# EAGLE library part IM26GR (library IM26GR)
Body Features: Product Weight .75 G | Insulation Special Features 2500V Initial Surge Withstand Voltage between Contacts & Coil | Product Weight .026 OZ | Contact Features: Contact Arrangement 2 Form C (2 CO) | Contact Number of Poles 2 | Contact Current Rating (Max) 2 AMP | Contact Special Features Bifurcated/Twin Contacts | Contact Plating Material Gold | Contact Base Material PdRu+Au | Contact Current Class 0 2 AMP | Dimensions: Product Length .393 INCH | Width Class (Mechanical) 0 6 MM | Product Source: Datasheet <https://www.te.com/commerce/DocumentDelivery/DDEController?Action=srchrtrv&DocNm=108-98001&DocType=Data Sheet&DocLang=English&PartCntxt=3-1462039-1&DocFormat=pdf>
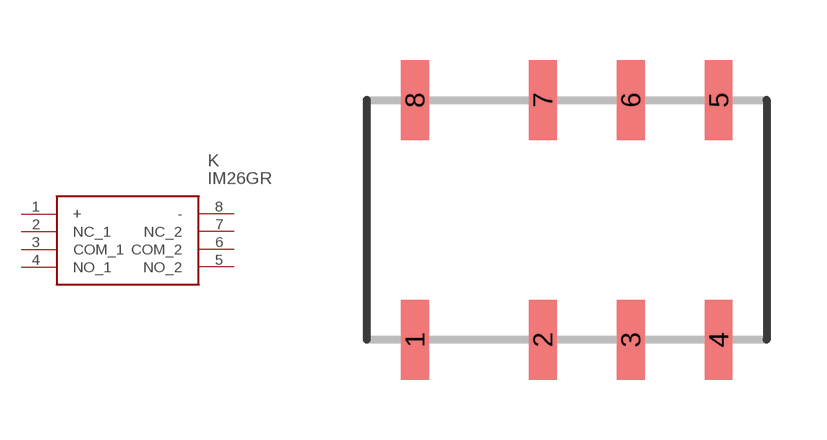
[diagram p0: symbol with the pads of IM07GR; footprint IM07GR]

Designator prefix K

## IM26GR (Description: Body Features: Product Weight .75 G | Insulation Special Features 2500V Initial Surge Withstand Voltage between Contacts & Coil | Product Weight .026 OZ | Contact Features: Contact Arrangement 2 Form C (2 CO) | Contact Number of Poles 2 | Contact Current Rating (Max) 2 AMP | Contact Special Features Bifurcated/Twin Contacts | Contact Plating Material Gold | Contact Base Material PdRu+Au | Contact Current Class 0 2 AMP | Dimensions: Product Length .393 INCH | Width Class (Mechanical) 0 6 MM | Product; Height: mm; Manufacturer_Name: TE Connectivity; Manufacturer_Part_Number: IM26GR; Mouser_Part_Number: 655-IM26GR; Mouser_Price-Stock: https://www.mouser.co.uk/ProductDetail/TE-Connectivity-Axicom/IM26GR?qs=g%252BEszo6zu8Mzp1wukcNrqQ%3D%3D)  [IM07GR]
1  +
2  NC_1
3  COM_1
4  NO_1
5  NO_2
6  COM_2
7  NC_2
8  -

## Footprint IM07GR (pad centres in mm)
IM07GR
smd 0.7 x 2: 1 -3.8,-3; 2 -0.6,-3; 3 1.6,-3; 4 3.8,-3; 5 3.8,3; 6 1.6,3; 7 -0.6,3; 8 -3.8,3